# Altium footprint library SV601187A.PcbLib: 30 footprints (part 1 of 2)
Each footprint in its own frame and in the unit in brackets; x right, y up, seen from the top. Pads: shape width x height; smd on the part's side, far side on the other; paste and mask are expansions set on the pad; w line width, h text height; cw(c..) or ccw(c..) is an arc to the next point about the centre after c.
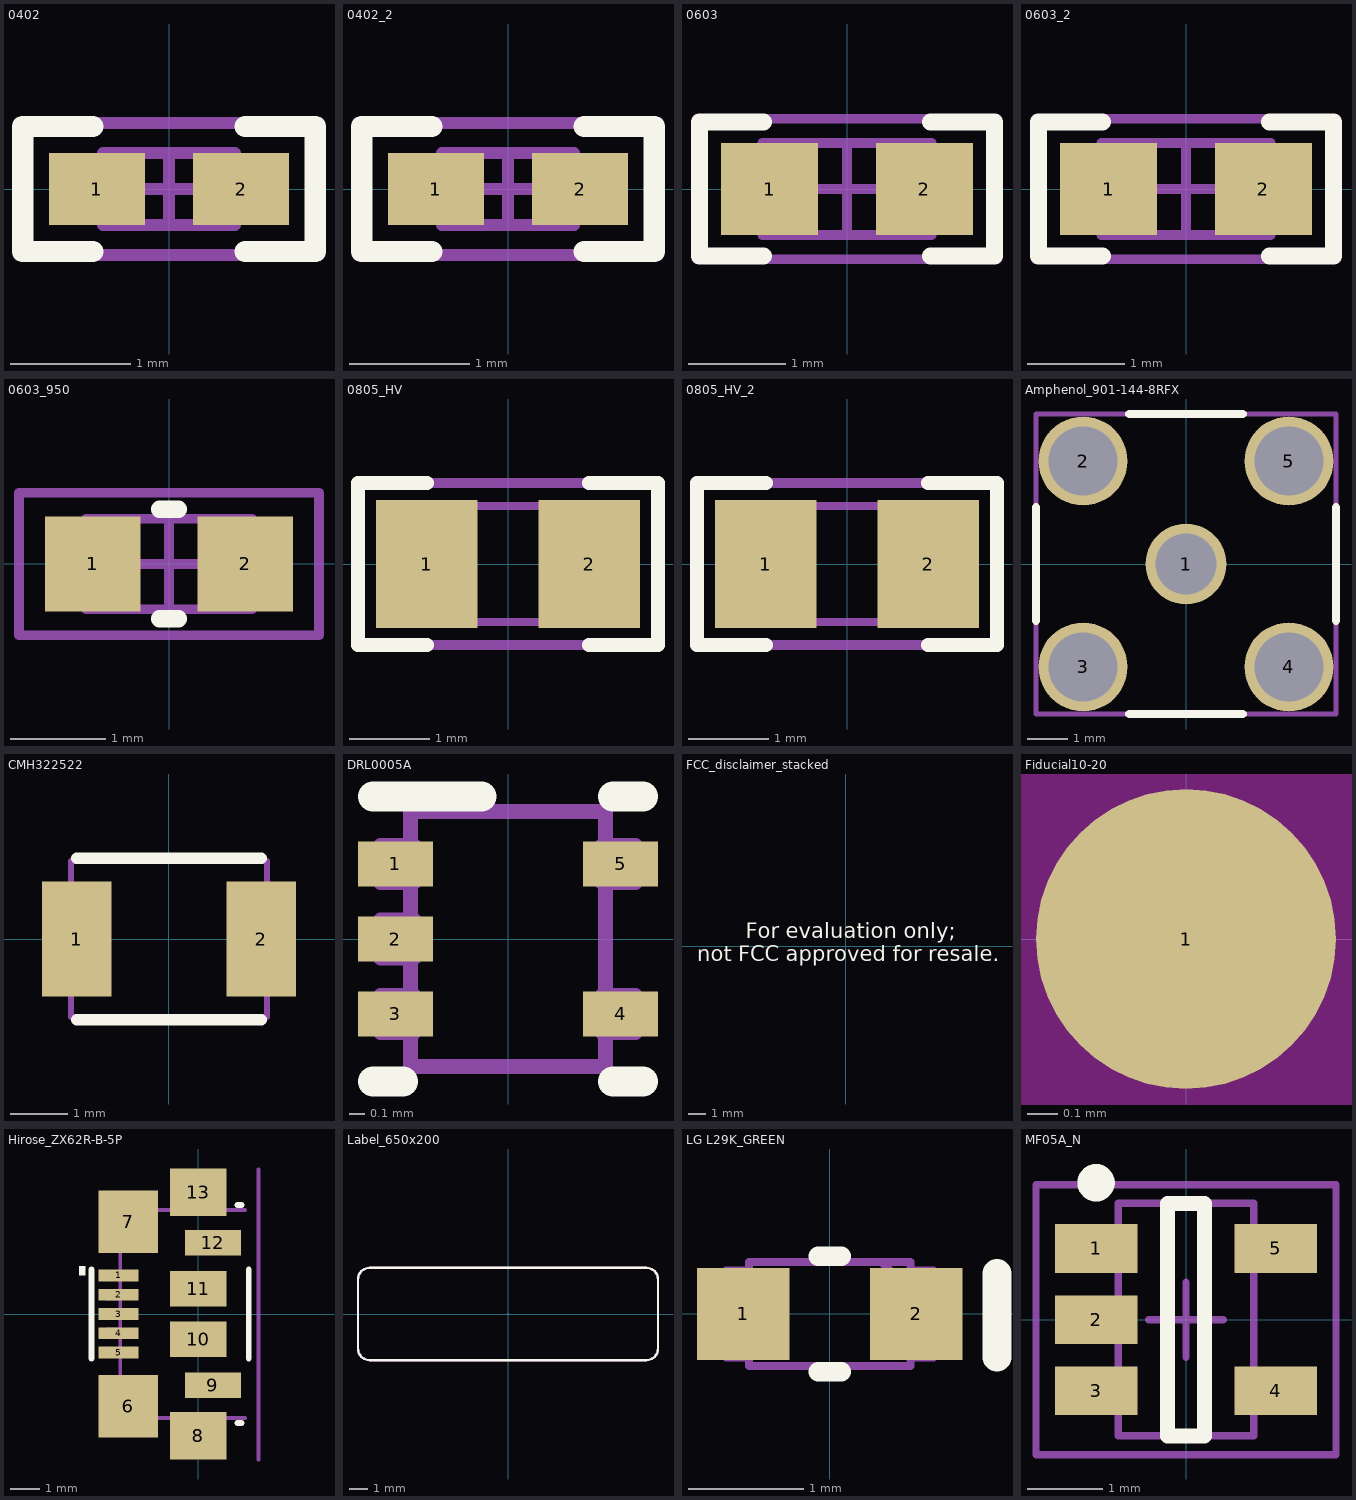
[diagram p0: the footprints below, top view; thin cyan lines are the x and y axes]

## 0402 [mm] "0402 from SM-752 data"
height 0.6
pads (2):
  rect 0.8x0.6 smd: 1(-0.6,0) 2(0.6,0)
Top Overlay:
  lines w0.178: -0.635,-0.521 -1.219,-0.521 -1.219,0.521 -0.635,0.521 ; 0.635,-0.521 1.219,-0.521 1.219,0.521 0.635,0.521
Mechanical 5:
  lines w0.1: -1.25,-0.55 -1.25,0.55 1.25,0.55 1.25,-0.55 -1.25,-0.55
  text ".Designator" at -1.117,-0.305 h0.61
Mechanical 13:
  lines w0.1: -0.35,-0.3 -0.35,0.3 ; 0.35,-0.3 0.35,0.3 ; -0.55,-0.3 0.55,-0.3 0.55,0.3 -0.55,0.3 -0.55,-0.3
Mechanical 15:
  lines w0.1: -0.3,0 0.3,0 ; 0,-0.3 0,0.3 ; -1.25,-0.55 1.25,-0.55 1.25,0.55 -1.25,0.55 -1.25,-0.55
3D body: height 0.6, standoff 0, extent 0.351,-0.299 0.549,0.299
3D body: height 0.6, standoff 0, extent -0.349,-0.299 0.349,0.299
3D body: height 0.6, standoff 0, extent -0.549,-0.299 -0.351,0.299

## 0402_2 [mm]
pads (2):
  rect 0.8x0.6 smd: 1(-0.6,0) 2(0.6,0)
Top Overlay:
  lines w0.178: -0.635,-0.521 -1.219,-0.521 -1.219,0.521 -0.635,0.521 ; 0.635,-0.521 1.219,-0.521 1.219,0.521 0.635,0.521
Mechanical 5:
  lines w0.1: -1.25,-0.55 -1.25,0.55 1.25,0.55 1.25,-0.55 -1.25,-0.55
  text ".Designator" at -1.117,-0.305 h0.61
Mechanical 13:
  lines w0.1: -0.35,-0.3 -0.35,0.3 ; 0.35,-0.3 0.35,0.3 ; -0.55,-0.3 0.55,-0.3 0.55,0.3 -0.55,0.3 -0.55,-0.3
Mechanical 15:
  lines w0.1: -0.3,0 0.3,0 ; 0,-0.3 0,0.3 ; -1.25,-0.55 1.25,-0.55 1.25,0.55 -1.25,0.55 -1.25,-0.55
3D body: height 0.6, standoff 0, extent 0.351,-0.299 0.549,0.299
3D body: height 0.6, standoff 0, extent -0.349,-0.299 0.349,0.299
3D body: height 0.6, standoff 0, extent -0.549,-0.299 -0.351,0.299

## 0603 [mm] "0603 from SM-752 data"
height 0.85
pads (2):
  rect 1x0.95 smd: 1(-0.8,0) 2(0.8,0)
Top Overlay:
  lines w0.178: -0.864,-0.691 -1.524,-0.691 -1.524,0.693 -0.864,0.693 ; 0.864,-0.691 1.524,-0.691 1.524,0.693 0.864,0.693
Mechanical 5:
  lines w0.1: -1.55,-0.725 -1.55,0.725 1.55,0.725 1.55,-0.725 -1.55,-0.725
  text ".Designator" at -1.397,-0.381 h0.76
Mechanical 13:
  lines w0.1: -0.55,-0.475 -0.55,0.475 ; 0.55,-0.475 0.55,0.475 ; -0.875,-0.475 0.875,-0.475 0.875,0.475 -0.875,0.475 -0.875,-0.475
Mechanical 15:
  lines w0.1: -0.475,0 0.475,0 ; 0,-0.475 0,0.475 ; -1.55,-0.725 1.55,-0.725 1.55,0.725 -1.55,0.725 -1.55,-0.725
3D body: height 0.85, standoff 0, extent -0.874,-0.474 -0.551,0.474
3D body: height 0.85, standoff 0, extent -0.549,-0.474 0.549,0.474
3D body: height 0.85, standoff 0, extent 0.551,-0.474 0.874,0.474

## 0603_2 [mm]
pads (2):
  rect 1x0.95 smd: 1(-0.8,0) 2(0.8,0)
Top Overlay:
  lines w0.178: -0.864,-0.691 -1.524,-0.691 -1.524,0.693 -0.864,0.693 ; 0.864,-0.691 1.524,-0.691 1.524,0.693 0.864,0.693
Mechanical 5:
  lines w0.1: -1.55,-0.725 -1.55,0.725 1.55,0.725 1.55,-0.725 -1.55,-0.725
  text ".Designator" at -1.397,-0.381 h0.76
Mechanical 13:
  lines w0.1: -0.55,-0.475 -0.55,0.475 ; 0.55,-0.475 0.55,0.475 ; -0.875,-0.475 0.875,-0.475 0.875,0.475 -0.875,0.475 -0.875,-0.475
Mechanical 15:
  lines w0.1: -0.475,0 0.475,0 ; 0,-0.475 0,0.475 ; -1.55,-0.725 1.55,-0.725 1.55,0.725 -1.55,0.725 -1.55,-0.725
3D body: height 0.85, standoff 0, extent -0.874,-0.474 -0.551,0.474
3D body: height 0.85, standoff 0, extent -0.549,-0.474 0.549,0.474
3D body: height 0.85, standoff 0, extent 0.551,-0.474 0.874,0.474

## 0603_950 [mm] "0603_950"
height 0.95
pads (2):
  rect 1x1 smd: 1(-0.8,0) 2(0.8,0)
Top Overlay:
  lines w0.18: -0.1,-0.575 0.1,-0.575 ; -0.1,0.575 0.1,0.575
Mechanical 5:
  lines w0.1: -0.875,-0.475 0.875,-0.475 0.875,0.475 -0.875,0.475 -0.875,-0.475
  text ".Designator" at -0.725,-0.2 h0.41
Mechanical 15:
  lines w0.1: -0.475,0 0.475,0 ; 0,-0.475 0,0.475 ; -1.575,-0.75 1.575,-0.75 1.575,0.75 -1.575,0.75 -1.575,-0.75
3D body: height 0.95, standoff 0, extent 0.475,-0.475 0.875,0.475
3D body: height 0.95, standoff 0, extent -0.875,-0.475 -0.475,0.475
3D body: height 0.95, standoff 0, extent -0.475,-0.475 0.475,0.475

## 0805_HV [mil] "0805 with 30mil clearance between pads"
height 43.31
pads (2):
  rect 50x63 smd: 1(-40,0) 2(40,0)
Top Overlay:
  lines w7: -40,-40 -74,-40 -74,0 -74,40 -40,40 ; 40,-40 74,-40 74,0 74,40 40,40
Mechanical 5:
  lines w5: -74,-40 74,-40 74,40 -74,40 -74,-40
  text ".Designator" at -64,-17 h35
Mechanical 13:
  lines w3.94: -25.59,-28.54 -25.59,28.54 ; 25.59,-28.54 25.59,28.54 ; -43.31,-28.54 -43.31,28.54 43.31,28.54 43.31,-28.54 -43.31,-28.54
3D body: height 43.31, standoff 0, extent 25.61,-28.52 43.29,28.52
3D body: height 43.31, standoff 0, extent -25.57,-28.52 25.57,28.52
3D body: height 43.31, standoff 0, extent -43.29,-28.52 -25.61,28.52

## 0805_HV_2 [mil]
pads (2):
  rect 50x63 smd: 1(-40,0) 2(40,0)
Top Overlay:
  lines w7: -40,-40 -74,-40 -74,0 -74,40 -40,40 ; 40,-40 74,-40 74,0 74,40 40,40
Mechanical 5:
  lines w5: -74,-40 74,-40 74,40 -74,40 -74,-40
  text ".Designator" at -64,-17 h35
Mechanical 13:
  lines w3.94: -25.59,-28.54 -25.59,28.54 ; 25.59,-28.54 25.59,28.54 ; -43.31,-28.54 -43.31,28.54 43.31,28.54 43.31,-28.54 -43.31,-28.54
3D body: height 43.31, standoff 0, extent 25.61,-28.52 43.29,28.52
3D body: height 43.31, standoff 0, extent -25.57,-28.52 25.57,28.52
3D body: height 43.31, standoff 0, extent -43.29,-28.52 -25.61,28.52

## Amphenol_901-144-8RFX [mm] "SMA Straight Jack, TH"
height 9.93
pads (5):
  round 2 hole 1.5: 1(0,0)
  round 2.2 hole 1.7: 2(-2.54,2.54) 3(-2.54,-2.54) 4(2.54,-2.54) 5(2.54,2.54)
Top Overlay:
  lines w0.2: -3.7,-1.4 -3.7,1.4 ; -1.4,-3.7 1.4,-3.7 ; -1.4,3.7 1.4,3.7 ; 3.7,-1.4 3.7,1.4
Mechanical 5:
  lines w0.127: -3.7,-3.7 3.7,-3.7 3.7,3.7 -3.7,3.7 -3.7,-3.7
  text ".Designator" at -1.524,-0.508 h1.02
3D body: height 0.5, standoff -2.5, extent -0.63,-0.634 0.635,0.634
3D body: height 1, standoff 0, extent 2.03,2.03 3.7,3.7
3D body: height 1, standoff 0, extent 2.03,-3.7 3.7,-2.03
3D body: height 1, standoff 0, extent -3.7,-3.7 -2.03,-2.03
3D body: height 1, standoff 0, extent -3.7,2.03 -2.03,3.7
3D body: height 2, standoff 0.3, extent -3.7,-3.7 3.7,3.7
3D body: height 0, standoff -2.5, extent 2.03,2.03 3.05,3.05
3D body: height 0, standoff -2.5, extent 2.03,-3.05 3.05,-2.03
3D body: height 0, standoff -2.5, extent -3.05,-3.05 -2.03,-2.03
3D body: height 0, standoff -2.5, extent -3.05,2.03 -2.03,3.05
3D body: height 4, standoff 2, extent -2.48,-2.495 2.5,2.495
3D body: height 9.93, standoff 2, extent -2.03,0 2.029,2.029
3D body: height 9.93, standoff 2, extent -2.03,-2.03 2.029,-0.001
3D body: height 6.2, standoff 6, extent -2.4,0 2.399,2.399
3D body: height 6.2, standoff 6, extent -2.4,-2.4 2.399,-0.001
3D body: height 6.7, standoff 6.5, extent -2.4,0 2.399,2.399
3D body: height 6.7, standoff 6.5, extent -2.4,-2.4 2.399,-0.001
3D body: height 7.2, standoff 7, extent -2.4,0 2.399,2.399
3D body: height 7.2, standoff 7, extent -2.4,-2.4 2.399,-0.001
3D body: height 7.7, standoff 7.5, extent -2.4,0 2.399,2.399
3D body: height 7.7, standoff 7.5, extent -2.4,-2.4 2.399,-0.001
3D body: height 8.2, standoff 8, extent -2.4,0 2.399,2.399
3D body: height 8.2, standoff 8, extent -2.4,-2.4 2.399,-0.001
3D body: height 8.7, standoff 8.5, extent -2.4,0 2.399,2.399
3D body: height 8.7, standoff 8.5, extent -2.4,-2.4 2.399,-0.001
3D body: height 5.7, standoff 5.5, extent -2.4,0 2.399,2.399
3D body: height 5.7, standoff 5.5, extent -2.4,-2.4 2.399,-0.001

## CMH322522 [mm] "Bourns"
height 2.4
pads (2):
  rect 1.2x2 smd: 1(-1.6,0) 2(1.6,0)
Top Overlay:
  lines w0.2: -1.6,-1.4 1.6,-1.4 ; -1.6,1.4 1.6,1.4
Mechanical 5:
  lines w0.1: -1.7,-1.35 -1.7,1.35 1.7,1.35 1.7,-1.35 -1.7,-1.35
  text ".Designator" at -1.5,-0.4 h0.75
3D body: height 2.4, standoff 0, extent -1.699,-1.349 1.699,1.349

## DRL0005A [mm] "SOTFL, 5-Flat Leads, Body 1.2x1.6x0.6mm, Pitch 0.5mm, TI recommended"
height 0.6
pads (5):
  rect 0.5x0.3 smd: 1(-0.75,0.5) 2(-0.75,0) 3(-0.75,-0.5) 4(0.75,-0.5) 5(0.75,0.5)
Top Overlay:
  lines w0.2: -0.9,-0.95 -0.7,-0.95 ; -0.9,0.95 -0.175,0.95 ; 0.7,-0.95 0.9,-0.95 ; 0.7,0.95 0.9,0.95
Mechanical 5:
  lines w0.1: -0.65,-0.625 -0.65,-0.85 0.65,-0.85 0.65,-0.625 ; -0.65,-0.375 -0.65,-0.125 ; -0.65,0.125 -0.65,0.375 ; -0.65,0.625 -0.65,0.85 0.65,0.85 0.65,0.625 ; 0.65,-0.375 0.65,0.375 ; -0.85,-0.625 -0.85,-0.375 -0.627,-0.375 -0.627,-0.625 -0.85,-0.625 ; -0.85,-0.125 -0.627,-0.125 -0.627,0.125 -0.85,0.125 -0.85,-0.125 ; -0.85,0.375 -0.85,0.625 -0.627,0.625 -0.627,0.375 -0.85,0.375 ; 0.627,-0.625 0.627,-0.375 0.85,-0.375 0.85,-0.625 0.627,-0.625 ; 0.627,0.375 0.627,0.625 0.85,0.625 0.85,0.375 0.627,0.375
  text ".Designator" at -0.15,0.55 h0.3
3D body "DRL0005A.stp": height 0.62, standoff 0.02, extent -0.85,-0.85 0.85,0.85

## FCC_disclaimer_stacked [mm]
Top Overlay:
  text "For evaluation only;" at -5.834,0.178 h1.52
  text "not FCC approved for resale." at -8.688,-1.178 h1.52

## Fiducial10-20 [mm]
pads (1):
  round 1 smd mask+0.5: 1(0,0)
Top Layer keep-out:
  circle w1.178: c0,0 r0.5

## Hirose_ZX62R-B-5P [mm] "Hirose"
height 2.65
pads (13):
  rect 1.35x0.4 smd: 1(-2.68,1.3) 2(-2.68,0.65) 3(-2.68,0) 4(-2.68,-0.65) 5(-2.68,-1.3)
  rect 2x2.1 smd: 6(-2.35,-3.1) 7(-2.35,3.1)
  rect 1.9x1.6 smd: 8(0,-4.1) 13(0,4.1)
  rect 1.88x0.85 smd: 9(0.495,-2.4) 12(0.495,2.4)
  rect 1.9x1.2 smd: 10(0,-0.85) 11(0,0.85)
Top Overlay:
  region: -4,1.6 -3.8,1.6 -3.8,1.3 -4,1.3
  lines w0.2: -3.6,-1.5 -3.6,1.5 ; 1.325,-3.675 1.45,-3.675 ; 1.325,3.675 1.45,3.675 ; 1.7,-1.5 1.7,1.5
Mechanical 1:
  lines w0.127: 2.032,-4.902 2.032,4.877
  text "Board Edge" at 3.6,-4.9 h1.02
Mechanical 5:
  circle w0.254: c-2.1,2.8 r0.141
  lines w0.127: -2.65,-1.425 -3.1,-1.425 -3.1,-1.175 -2.65,-1.175 ; -2.65,-0.775 -3.1,-0.775 -3.1,-0.525 -2.65,-0.525 ; -2.65,-0.125 -3.1,-0.125 -3.1,0.125 -2.65,0.125 ; -2.65,0.525 -3.1,0.525 -3.1,0.775 -2.65,0.775 ; -2.65,1.175 -3.1,1.175 -3.1,1.425 -2.65,1.425 ; -0.425,-3.5 -0.425,-4.45 0.45,-4.45 0.45,-3.5 ; -0.425,3.5 -0.425,4.45 0.45,4.45 0.45,3.5 ; 1.575,-3.5 -2.625,-3.5 -2.625,3.5 1.575,3.5
  text ".Designator" at -1.8,-0.3 h1.02
3D body: height 2.65, standoff 0, extent -2.565,-3.48 2.108,3.454
3D body: height 2.65, standoff 0, extent -2.241,2.659 -1.959,2.941

## Label_650x200 [mil] "Thermal Transfer Label"
height 1
pads (1):
  round 1 on Mech13: 0(0,0)
Top Overlay:
  lines w5: -325,-75 ccw(c-300,-75) -300,-100 300,-100 ccw(c300,-75) 325,-75 325,75 ccw(c300,75) 300,100 -300,100 ccw(c-300,75) -325,75 -325,-75
Mechanical 5:
  lines w5: -325,-75 ccw(c-300,-75) -300,-100 300,-100 ccw(c300,-75) 325,-75 325,75 ccw(c300,75) 300,100 -300,100 ccw(c-300,75) -325,75 -325,-75
  text ".Designator" at -60,-20 h40
3D body: height 1, standoff 0, extent -325.02,-100.02 325.02,100.02

## LG L29K_GREEN [mm] "OSRAM"
height 0.67
pads (2):
  rect 0.8x0.8 smd paste-0.4: 1(-0.75,0) 2(0.75,0)
Top Overlay:
  lines w0.17: -0.1,-0.5 0.1,-0.5 ; -0.1,0.5 0.1,0.5
  lines w0.25: 1.45,-0.375 1.45,0.35
Top Paste:
  rectangle: -1.1,-0.35 -0.5,0.35
  rectangle: 0.5,-0.35 1.1,0.35
Mechanical 5:
  lines w0.07: 0.7,0.375 0.9,0.375 0.9,-0.375 0.7,-0.375 ; 0.7,-0.375 0.7,0.2 ; 0.7,-0.375 0.7,-0.45 -0.7,-0.45 -0.7,-0.375 -0.9,-0.375 -0.9,0.375 -0.7,0.375 -0.7,0.45 0.7,0.45 ; 0.7,0.2 0.45,0.45 0.7,0.45 ; 0.7,0.2 0.7,0.45
  text ".Designator" at -0.75,-0.2 h0.35
3D body: height 0.18, standoff 0, extent -0.899,-0.374 -0.701,0.374
3D body: height 0.18, standoff 0, extent 0.701,-0.374 0.899,0.374
3D body: height 0.18, standoff 0, extent -0.699,-0.449 0.699,0.449
3D body: height 0.67, standoff 0.18, extent -0.699,-0.449 0.699,0.449
3D body: height 0.67, standoff 0.65, extent 0.451,0.201 0.699,0.449

## MF05A_N [mm] "SOT23, 5-Leads, Body 2.9x1.6mm, Pitch 0.95mm, Lead Span 2.8mm, IPC Medium Density"
height 1.19
pads (5):
  rect 1.1x0.65 smd: 1(-1.2,0.95) 2(-1.2,0) 3(-1.2,-0.95) 4(1.2,-0.95) 5(1.2,0.95)
Top Overlay:
  circle w0.25: c-1.2,1.825 r0.125
  lines w0.2: -0.25,-1.55 0.25,-1.55 0.25,1.55 -0.25,1.55 -0.25,-1.55
Mechanical 5:
  text ".Designator" at -1.524,-0.508 h1.02
Mechanical 13:
  lines w0.1: -0.9,-1.55 -0.9,1.55 0.9,1.55 0.9,-1.55 -0.9,-1.55
Mechanical 15:
  lines w0.1: -0.5,0 0.5,0 ; 0,-0.5 0,0.5 ; -2,-1.8 -2,1.8 2,1.8 2,-1.8 -2,-1.8
3D body: height 1.19, standoff 0, extent -0.9,-1.55 0.9,1.55